# Altium footprint library XTALs.PcbLib: 5 footprints
Each footprint in its own frame and in the unit in brackets; x right, y up, seen from the top. Pads: shape width x height; smd on the part's side, far side on the other; paste and mask are expansions set on the pad; w line width, h text height; cw(c..) or ccw(c..) is an arc to the next point about the centre after c.
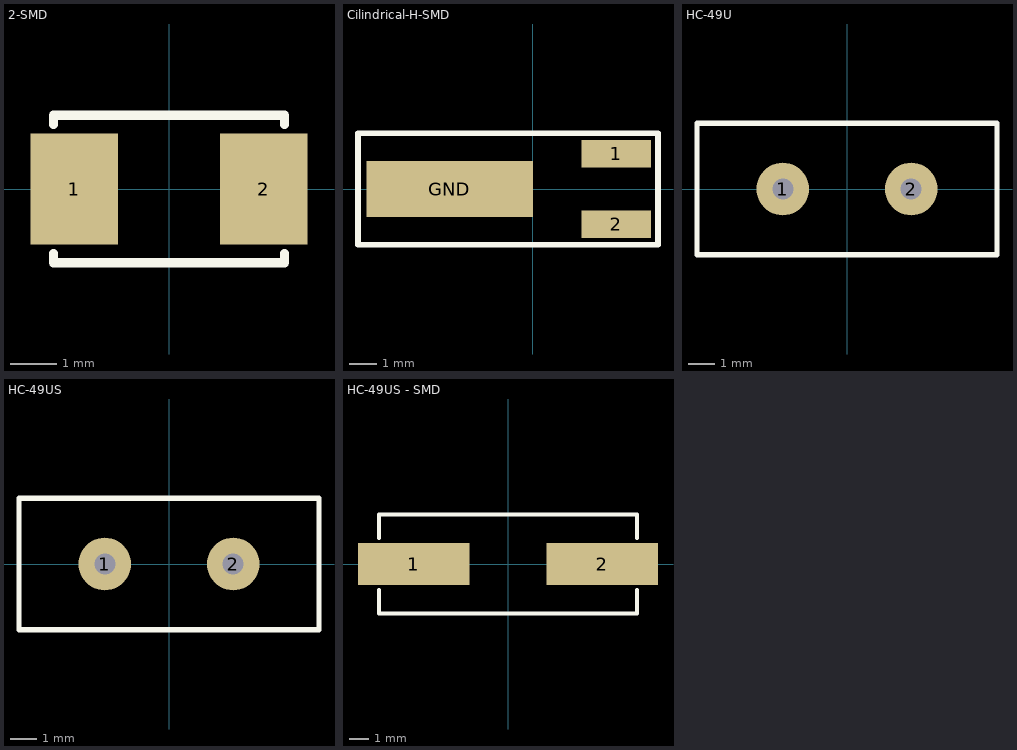
[diagram p0: the footprints below, top view; thin cyan lines are the x and y axes]

## 2-SMD [mm] "2-SMD"
height 1.6
pads (2):
  rect 1.9x2.4 smd: 1(-2.05,0) 2(2.05,0)
Top Overlay:
  lines w0.2: -2.5,-1.4 -2.5,-1.6 2.5,-1.6 2.5,-1.4 ; -2.5,1.4 -2.5,1.6 2.5,1.6 2.5,1.4
3D body "2-SMD.STEP": height 1.05, standoff 0.05, extent -2.514,-1.6 2.514,1.6

## Cilindrical-H-SMD [mm] "Cilindrical canned XTAL, Horizontal, SMD"
height 2
pads (3):
  rect 2.5x1 smd: 1(3,1.27) 2(3,-1.27)
  rect 6x2 smd: GND(-3,0)
Top Overlay:
  lines w0.2: -6.3,-2 4.5,-2 4.5,2 -6.3,2 -6.3,-2
3D body "Cilindrical.STEP": height 2.25, standoff 0.01, extent -5.4,-1.41 3.6,1.41

## HC-49U [mm] "HC-49U XTAL"
height 13.49
pads (2):
  round 2 hole 0.8: 1(-2.44,0) 2(2.44,0)
Top Overlay:
  lines w0.2: -5.7,-2.5 -5.7,2.5 5.7,2.5 5.7,-2.5 -5.7,-2.5
3D body "HC-49U.STEP": height 13.49, standoff -2.99, extent -5.525,-2.325 5.525,2.325

## HC-49US [mm] "HC-49US XTAL"
height 3.5
pads (2):
  round 2 hole 0.8: 1(-2.44,0) 2(2.44,0)
Top Overlay:
  lines w0.2: -5.7,-2.5 -5.7,2.5 5.7,2.5 5.7,-2.5 -5.7,-2.5
3D body "HC-49US.STEP": height 3.51, standoff -2.99, extent -5.525,-2.325 5.525,2.325

## HC-49US - SMD [mm] "HC-49US XTAL"
height 4.3
pads (2):
  rect 5.6x2.1 smd: 1(-4.75,0) 2(4.75,0)
Top Overlay:
  lines w0.2: -6.5,-1.3 -6.5,-2.5 6.5,-2.5 6.5,-1.3 ; -6.5,1.3 -6.5,2.5 6.5,2.5 6.5,1.3
3D body "HC-49US-SMD.STEP": height 4.25, standoff 0, extent -6.35,-2.4 6.35,2.4